# EAGLE library part 74*138 (library 1_domaci)
3-line to 8-line DECODER/DEMULTIPLEXER
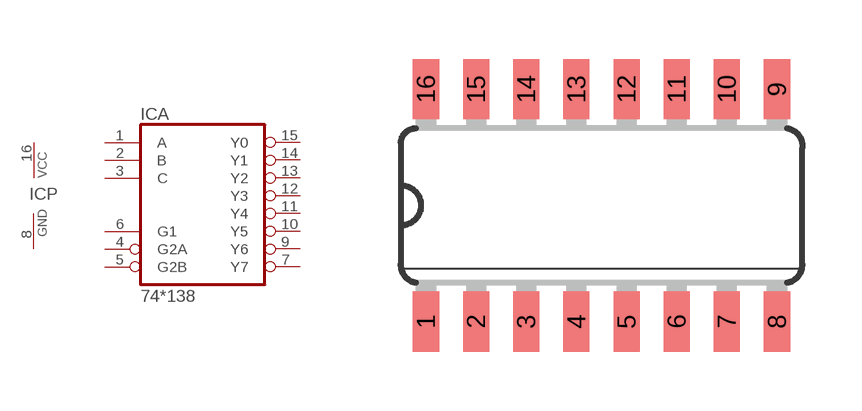
[diagram p3: symbol with the pads of SO16; footprint SO16]

Designator prefix IC; gates A=74138 P=PWRN

## 74AC138D, 74ACT138D, 74HC138D, 74HCT138D, 74LS138D, 74S138D  [SO16]
1  A:A  in
2  A:B  in
3  A:C  in
4  A:G2A  in
5  A:G2B  in
6  A:G1  in
7  A:Y7  out
8  P:GND  pwr
9  A:Y6  out
10  A:Y5  out
11  A:Y4  out
12  A:Y3  out
13  A:Y2  out
14  A:Y1  out
15  A:Y0  out
16  P:VCC  pwr

## Footprint SO16 (pad centres in mm)
Small Outline package 150 mil
smd 0.66 x 1.524: 1 -4.445,-2.946; 2 -3.175,-2.946; 3 -1.905,-2.946; 4 -0.635,-2.946; 5 0.635,-2.946; 6 1.905,-2.946; 7 3.175,-2.946; 8 4.445,-2.946; 9 4.445,2.946; 10 3.175,2.946; 11 1.905,2.946; 12 0.635,2.946; 13 -0.635,2.946; 14 -1.905,2.946; 15 -3.175,2.946; 16 -4.445,2.946